# EAGLE library part FLAT-FLEX-CONNECTOR-RA-22POS (library FlashPCB_Connectors)
FLAT-FLEX-CONNECTOR-RA-22POS - Flat Flex Connector 22 position Right Angle Technical Specifications: Number of Positions: 22 Contact: Top or Bottom Mount: Right Angle
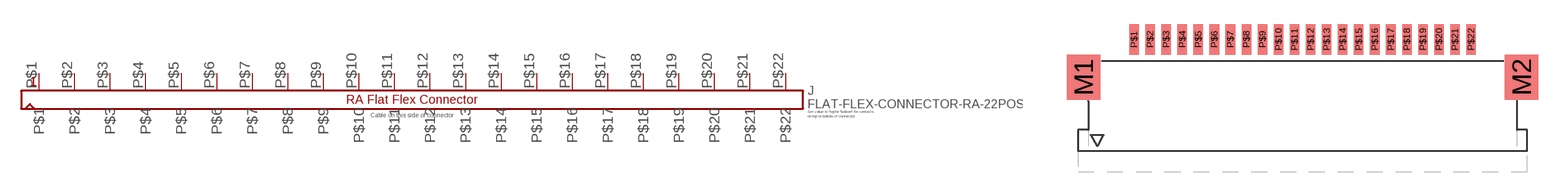
[diagram p115: symbol with the pads of FLAT-FLEX-CONNECTOR-MOLEX-522XX-RA-22POS; footprint FLAT-FLEX-CONNECTOR-MOLEX-522XX-RA-22POS]

Designator prefix J

## FLAT-FLEX-CONNECTOR-RA-22POS1MM-PITCH  [FLAT-FLEX-CONNECTOR-MOLEX-522XX-RA-22POS]
P$1  P$1
P$2  P$2
P$3  P$3
P$4  P$4
P$5  P$5
P$6  P$6
P$7  P$7
P$8  P$8
P$9  P$9
P$10  P$10
P$11  P$11
P$12  P$12
P$13  P$13
P$14  P$14
P$15  P$15
P$16  P$16
P$17  P$17
P$18  P$18
P$19  P$19
P$20  P$20
P$21  P$21
P$22  P$22

## Footprint FLAT-FLEX-CONNECTOR-MOLEX-522XX-RA-22POS (pad centres in mm)
smd 2.1 x 2.8: M1 -13.65,-1.4; M2 13.65,-1.4
smd 0.6 x 1.9: P$1 -10.5,0.95; P$2 -9.5,0.95; P$3 -8.5,0.95; P$4 -7.5,0.95; P$5 -6.5,0.95; P$6 -5.5,0.95; P$7 -4.5,0.95; P$8 -3.5,0.95; P$9 -2.5,0.95; P$10 -1.5,0.95; P$11 -0.5,0.95; P$12 0.5,0.95; P$13 1.5,0.95; P$14 2.5,0.95; P$15 3.5,0.95; P$16 4.5,0.95; P$17 5.5,0.95; P$18 6.5,0.95; P$19 7.5,0.95; P$20 8.5,0.95; P$21 9.5,0.95; P$22 10.5,0.95